# EAGLE library part AD9833 (library ad9833)
ad9833 msop msop10 msop-10 RM-10
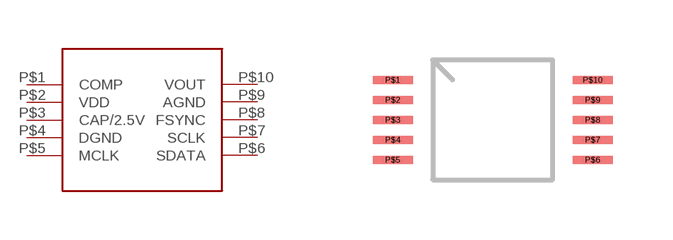
[diagram p0: symbol with the pads of MSOP-10; footprint MSOP-10]

Designator prefix -

## AD9833  [MSOP-10]
P$1  COMP
P$2  VDD
P$3  CAP/2.5V
P$4  DGND
P$5  MCLK
P$6  SDATA
P$7  SCLK
P$8  FSYNC
P$9  AGND
P$10  VOUT

## Footprint MSOP-10 (pad centres in mm)
msop msop10 msop-10 RM-10
smd 1 x 0.2: P$1 0,0; P$2 0,-0.5; P$3 0,-1; P$4 0,-1.5; P$5 0,-2; P$6 5,-2; P$7 5,-1.5; P$8 5,-1; P$9 5,-0.5; P$10 5,0